# EAGLE library part ESP-PROG (library Dennistries-Josh)
ESP-Prog ESP-Prog programming header for ESP8266, ESP8285, and ESP32. Options for both 1x6 and 2x3 formats, in 2.54mm (0.1") and 1.27mm (0.05") pitch.
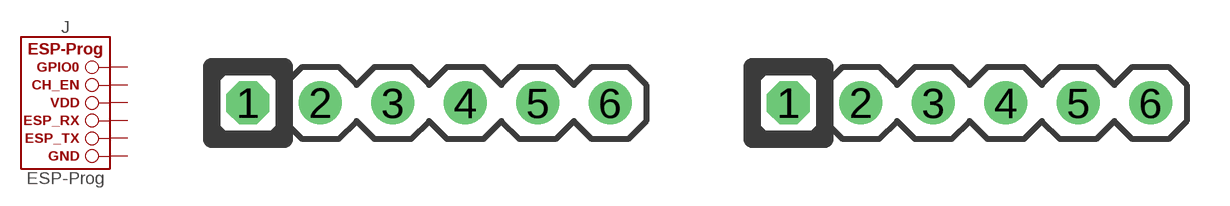
[diagram p56: symbol with the pads of 1X6-2.54-SOCKET; footprints 1X6-2.54-SOCKET, 1X6-2.54-PLAIN]

Designator prefix J

## ESP-PROG-1X6-2.54-SOCKET  [1X6-2.54-SOCKET]
1  GND  pas
2  ESP_TX  pas
3  ESP_RX  pas
4  VDD  pas
5  CH_EN  pas
6  GPIO0  pas

## ESP-PROG-1X6-2.54-PLAIN  [1X6-2.54-PLAIN]
Pads as for 1X6-2.54-SOCKET

## ESP-PROG-2X3-2.54-SHROUDED  [2X3-2.54-SHROUDED]
1  CH_EN  pas
2  VDD  pas
3  ESP_TX  pas
4  GND  pas
5  ESP_RX  pas
6  GPIO0  pas

## ESP-PROG-2X3-2.54-PLAIN  [2X3-2.54-PLAIN]
Pads as for 2X3-2.54-SHROUDED

## ESP-PROG-2X3-2.54-PINS  [2X3-2.54-PINS]
Pads as for 2X3-2.54-SHROUDED

## ESP-PROG-1X6-1.27-PLAIN  [1X6-1.27-PLAIN]
Pads as for 1X6-2.54-SOCKET

## ESP-PROG-1X6-1.27-SOCKET  [1X6-1.27-SOCKET]
Pads as for 1X6-2.54-SOCKET

## ESP-PROG-2X3-1.27-PINS  [2X3-1.27-PINS]
Pads as for 2X3-2.54-SHROUDED

## ESP-PROG-2X3-1.27-PLAIN  [2X3-1.27-PLAIN]
Pads as for 2X3-2.54-SHROUDED

## ESP-PROG-2X3-1.27-SHROUDED  [2X3-1.27-SHROUDED]
Pads as for 2X3-2.54-SHROUDED

## ESP-PROG-1X6-2.54-PINS-RA  [1X6-2.54-PINS-RA]
Pads as for 1X6-2.54-SOCKET

## ESP-PROG-1X6-2.54-SOCKET-RA  [1X6-2.54-SOCKET-RA]
Pads as for 1X6-2.54-SOCKET

## ESP-PROG-1X6-1.27-PINS-RA  [1X6-1.27-PINS-RA]
Pads as for 1X6-2.54-SOCKET

## Footprint 1X6-2.54-SOCKET (pad centres in mm)
ESP-Prog Programming Header: 1x6 @ 2.54mm format, 1mm holes with socket
drill 1 octagon: 1 -6.35,0
drill 1: 2 -3.81,0; 3 -1.27,0; 4 1.27,0; 5 3.81,0; 6 6.35,0

## Footprint 1X6-2.54-PLAIN (pad centres in mm)
ESP-Prog Programming Header: 1x6 @ 2.54mm format, 1mm holes with no header
drill 1 octagon: 1 -6.35,0
drill 1: 2 -3.81,0; 3 -1.27,0; 4 1.27,0; 5 3.81,0; 6 6.35,0

## Footprint 2X3-2.54-SHROUDED (pad centres in mm)
ESP-Prog Programming Header: 2x3 @ 2.54mm format, 1mm holes with shrouded header
drill 1 octagon: 1 -2.54,-1.27
drill 1: 2 -2.54,1.27; 3 0,-1.27; 4 0,1.27; 5 2.54,-1.27; 6 2.54,1.27

## Footprint 2X3-2.54-PLAIN (pad centres in mm)
ESP-Prog Programming Header: 2x3 @ 2.54mm format, 1mm holes with no header
drill 1 octagon: 1 -2.54,-1.27
drill 1: 2 -2.54,1.27; 3 0,-1.27; 4 0,1.27; 5 2.54,-1.27; 6 2.54,1.27

## Footprint 2X3-2.54-PINS (pad centres in mm)
ESP-Prog Programming Header: 2x3 @ 2.54mm format, 1mm holes with pin header
drill 1 octagon: 1 -2.54,-1.27
drill 1: 2 -2.54,1.27; 3 0,-1.27; 4 0,1.27; 5 2.54,-1.27; 6 2.54,1.27

## Footprint 1X6-1.27-PLAIN (pad centres in mm)
ESP-Prog Programming Header: 1x6 @ 1.27mm format, 0.7mm holes with no header
drill 0.7 pad 1.016 octagon: 1 -3.175,0
drill 0.7 pad 1.016: 2 -1.905,0; 3 -0.635,0; 4 0.635,0; 5 1.905,0; 6 3.175,0

## Footprint 1X6-1.27-SOCKET (pad centres in mm)
ESP-Prog Programming Header: 1x6 @ 1.27mm format, 0.7mm holes with socket
drill 0.7 pad 1.016 octagon: 1 -3.175,0
drill 0.7 pad 1.016: 2 -1.905,0; 3 -0.635,0; 4 0.635,0; 5 1.905,0; 6 3.175,0

## Footprint 2X3-1.27-PINS (pad centres in mm)
ESP-Prog Programming Header: 2x3 @ 1.27mm format, 0.7mm holes with pin header
drill 0.7 pad 1.016 octagon: 1 -1.27,-0.635
drill 0.7 pad 1.016: 2 -1.27,0.635; 3 0,-0.635; 4 0,0.635; 5 1.27,-0.635; 6 1.27,0.635

## Footprint 2X3-1.27-PLAIN (pad centres in mm)
ESP-Prog Programming Header: 2x3 @ 1.27mm format, 0.7mm holes with no header
drill 0.7 pad 1.016 octagon: 1 -1.27,-0.635
drill 0.7 pad 1.016: 2 -1.27,0.635; 3 0,-0.635; 4 0,0.635; 5 1.27,-0.635; 6 1.27,0.635

## Footprint 2X3-1.27-SHROUDED (pad centres in mm)
ESP-Prog Programming Header: 2x3 @ 1.27mm format, 0.7mm holes with shrouded header
drill 0.7 pad 1.016 octagon: 1 -1.27,-0.635
drill 0.7 pad 1.016: 2 -1.27,0.635; 3 0,-0.635; 4 0,0.635; 5 1.27,-0.635; 6 1.27,0.635

## Footprint 1X6-2.54-PINS-RA (pad centres in mm)
ESP-Prog Programming Header: 1x6 @ 2.54mm format, 1mm holes with right angle pin header
drill 1 octagon: 1 -6.35,0
drill 1: 2 -3.81,0; 3 -1.27,0; 4 1.27,0; 5 3.81,0; 6 6.35,0

## Footprint 1X6-2.54-SOCKET-RA (pad centres in mm)
ESP-Prog Programming Header: 1x6 @ 2.54mm format, 1mm holes with right angle pin header
drill 1 octagon: 1 -6.35,0
drill 1: 2 -3.81,0; 3 -1.27,0; 4 1.27,0; 5 3.81,0; 6 6.35,0

## Footprint 1X6-1.27-PINS-RA (pad centres in mm)
ESP-Prog Programming Header: 1x6 @ 1.27mm format, 0.7mm holes with no right angle pin header
drill 0.7 pad 1.016 octagon: 1 -3.175,0
drill 0.7 pad 1.016: 2 -1.905,0; 3 -0.635,0; 4 0.635,0; 5 1.905,0; 6 3.175,0